# EAGLE library part ARDUINO (library BradBoxV4)
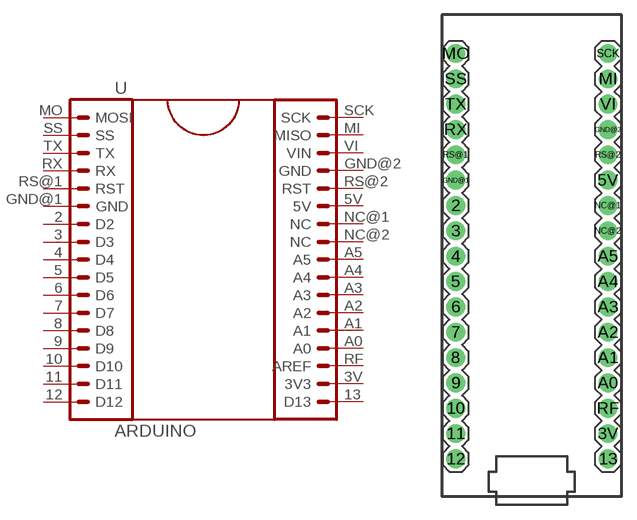
[diagram p2: symbol with the pads of ARDUINO_MICRO; footprint ARDUINO_MICRO]

Designator prefix -

## ARDUINOMICRO  [ARDUINO_MICRO]
2  D2
3  D3
3V  3V3
4  D4
5  D5
5V  5V
6  D6
7  D7
8  D8
9  D9
10  D10
11  D11
12  D12
13  D13
A0  A0
A1  A1
A2  A2
A3  A3
A4  A4
A5  A5
GND@1  GND
GND@2  GND
MI  MISO
MO  MOSI
NC@1  NC
NC@2  NC
RF  AREF
RS@1  RST
RS@2  RST
RX  RX
SCK  SCK
SS  SS
TX  TX
VI  VIN

## Footprint ARDUINO_MICRO (pad centres in mm)
drill 1.016 pad 1.88: 2 -7.62,25.4; 3 -7.62,22.86; 3V 7.62,2.54; 4 -7.62,20.32; 5 -7.62,17.78; 5V 7.62,27.94; 6 -7.62,15.24; 7 -7.62,12.7; 8 -7.62,10.16; 9 -7.62,7.62; 10 -7.62,5.08; 11 -7.62,2.54; 12 -7.62,0; 13 7.62,0; A0 7.62,7.62; A1 7.62,10.16; A2 7.62,12.7; A3 7.62,15.24; A4 7.62,17.78; A5 7.62,20.32; GND@1 -7.62,27.94; GND@2 7.62,33.02; MI 7.62,38.1; MO -7.62,40.64; NC@1 7.62,25.4; NC@2 7.62,22.86; RF 7.62,5.08; RS@1 -7.62,30.48; RS@2 7.62,30.48; RX -7.62,33.02; SCK 7.62,40.64; SS -7.62,38.1; TX -7.62,35.56; VI 7.62,35.56